# Altium footprint library ADA3708_RPI-ZERO.PcbLib: 1 footprints
Each footprint in its own frame and in the unit in brackets; x right, y up, seen from the top. Pads: shape width x height; smd on the part's side, far side on the other; paste and mask are expansions set on the pad; w line width, h text height; cw(c..) or ccw(c..) is an arc to the next point about the centre after c.
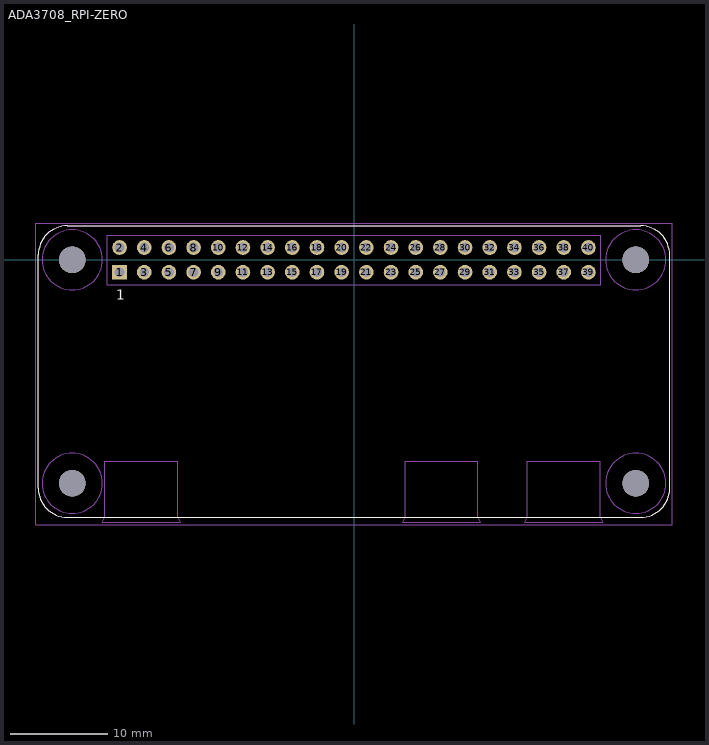
[diagram p0: the footprint, top view; thin cyan lines are the x and y axes]

## ADA3708_RPI-ZERO [mm]
pads (44):
  rect 1.508x1.508 hole 1: 1(-24.13,-1.27)
  round 1.508 hole 1: 2(-24.13,1.27) 3(-21.59,-1.27) 4(-21.59,1.27) 5(-19.05,-1.27) 6(-19.05,1.27) 7(-16.51,-1.27) 8(-16.51,1.27) 9(-13.97,-1.27) 10(-13.97,1.27) 11(-11.43,-1.27) 12(-11.43,1.27) 13(-8.89,-1.27) 14(-8.89,1.27) 15(-6.35,-1.27) 16(-6.35,1.27) 17(-3.81,-1.27) 18(-3.81,1.27) 19(-1.27,-1.27) 20(-1.27,1.27) 21(1.27,-1.27) 22(1.27,1.27) 23(3.81,-1.27) 24(3.81,1.27) 25(6.35,-1.27) 26(6.35,1.27) 27(8.89,-1.27) 28(8.89,1.27) 29(11.43,-1.27) 30(11.43,1.27) 31(13.97,-1.27) 32(13.97,1.27) 33(16.51,-1.27) 34(16.51,1.27) 35(19.05,-1.27) 36(19.05,1.27) 37(21.59,-1.27) 38(21.59,1.27) 39(24.13,-1.27) 40(24.13,1.27)
  round 2.75 hole 2.75 unplated: ""(-29,-23) ""(-29,0) ""(29,-23) ""(29,0)
Top Overlay:
  lines w0.127: 4.4,-26.5 12.75,-26.5 ; 17,-26.5 25.35,-26.5 ; -32.5,-23.5 ccw(c-29.5,-23.5) -29.5,-26.5 29.5,-26.5 ccw(c29.5,-23.5) 32.5,-23.5 32.5,0.5 ccw(c29.5,0.5) 29.5,3.5 -29.5,3.5 ccw(c-29.5,0.5) -32.5,0.5 -32.5,-23.5
  text "1" at -24.473,-4.132 h1.02
Mechanical 13:
  circle w0.127: c-29,-23 r3.1
  circle w0.127: c29,-23 r3.1
  circle w0.127: c29,0 r3.1
  circle w0.127: c-29,0 r3.1
  lines w0.127: 4.4,-26.5 5.25,-26.5 ; 17,-26.5 17.85,-26.5 ; -25.65,-26.5 -29.5,-26.5 cw(c-29.5,-23.5) -32.5,-23.5 -32.5,0.5 cw(c-29.5,0.5) -29.5,3.5 29.5,3.5 cw(c29.5,0.5) 32.5,0.5 32.5,-23.5 cw(c29.5,-23.5) 29.5,-26.5 -18.15,-26.5 ; -25.65,-26.5 -18.15,-26.5 ; -25.65,-26.5 -25.65,-20.75 -18.15,-20.75 -18.15,-26.5 ; -25.65,-26.5 -25.9,-27 -17.9,-27 -18.15,-26.5 ; 5.25,-26.5 12.75,-26.5 ; 5.25,-26.5 5.25,-20.75 12.75,-20.75 12.75,-26.5 ; 5.25,-26.5 5,-27 13,-27 12.75,-26.5 ; 17.85,-26.5 25.35,-26.5 ; 17.85,-26.5 17.85,-20.75 25.35,-20.75 25.35,-26.5 ; 17.85,-26.5 17.6,-27 25.6,-27 25.35,-26.5 ; -25.4,-2.54 -25.4,2.54 25.4,2.54 25.4,-2.54 -25.4,-2.54
Mechanical 15:
  lines w0.05: -32.75,-27.25 32.75,-27.25 32.75,3.75 -32.75,3.75 -32.75,-27.25